# Altium schematic symbol library MCU08050D1002BP500.SchLib: 1 symbol
Pins are listed as number, name and electrical type; pins without a type are passive.

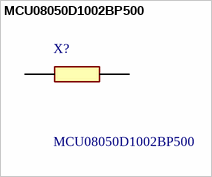
[diagram p0: symbol MCU08050D1002BP500]

## MCU08050D1002BP500
designator X?
VISHAY - MCU08050D1002BP500 - SMD Chip Resistor, 10 kohm, +/- 0.1%, 125 mW, 0805 [2012 Metric], Thin Film, High Power; Geometry.Height: 0.55mm; Farnell Part Number: *; Farnell Price/Stock: *; Manufacturer_Name: Vishay; Manufacturer_Part_Number: MCU08050D1002BP500; Datasheet Link: https://www.vishay.com/docs/28700/mcx0x0xpre.pdf
footprint RESC2012X55N
pins: 1, 2